# EAGLE library part TPS54140 (library parts)
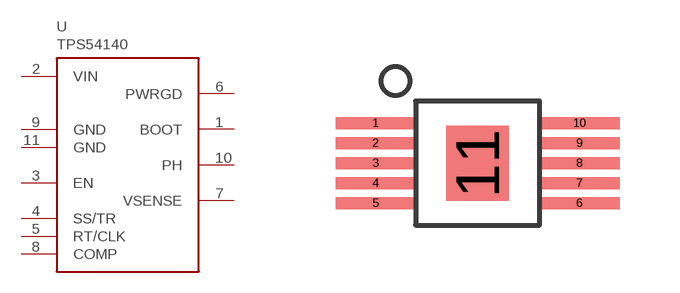
[diagram p6: symbol with the pads of POWERPAD-10; footprint POWERPAD-10]

Designator prefix U

## TPS54140  [POWERPAD-10]
1  BOOT  pas
2  VIN  pwr
3  EN  in
4  SS/TR  pas
5  RT/CLK  pas
6  PWRGD  oc
7  VSENSE  pas
8  COMP  pas
9  GND  pwr
10  PH  pas
11  GND  pwr

## Footprint POWERPAD-10 (pad centres in mm)
smd 2 x 0.3: 1 -2.55,1; 2 -2.55,0.5; 3 -2.55,0; 4 -2.55,-0.5; 5 -2.55,-1; 6 2.55,-1; 7 2.55,-0.5; 8 2.55,0; 9 2.55,0.5; 10 2.55,1
smd 1.57 x 1.88: 11 0,0